# Altium schematic symbol library Header_2x3.SchLib: 1 symbol
Pins are listed as number, name and electrical type; pins without a type are passive.

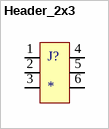
[diagram p0: symbol Header_2x3]

## Header_2x3
designator J?
pins: 1, 2, 3, 4, 5, 6